# Altium integrated library M2_to_USB3.IntLib: 2 symbols
Pins are listed as number, name and electrical type; pins without a type are passive.

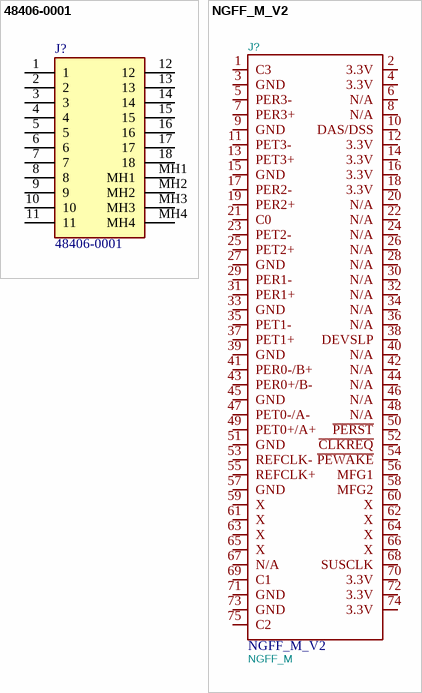
[diagram p0: symbols 48406-0001 to NGFF_M_V2]

## 48406-0001
designator J?
Connector; Manufacturer_Name: Molex; Datasheet Link: https://www.molex.com/content/dam/molex/molex-dot-com/products/automated/en-us/salesdrawingpdf/484/48406/484060001_sd.pdf; Height: 15.65mm; Manufacturer_Part_Number: 48406-0001; Mouser Part Number: 538-48406-0001; Mouser Price/Stock: https://www.mouser.co.uk/ProductDetail/Molex/48406-0001?qs=tkvX2tz6JTEgpbDeTYwKTA%3D%3D
footprint 484060001
pins: 1, 2, 3, 4, 5, 6, 7, 8, 9, 10, 11, 12, 13, 14, 15, 16, 17, 18, MH1, MH2, MH3, MH4

## NGFF_M_V2
designator J?  value NGFF_M
footprint M.2-M-KEY-2280-V2 (Footprint not found)
pins: 1 C3, 2 3.3V, 3 GND, 4 3.3V, 5 PER3-, 6 N/A, 7 PER3+, 8 N/A, 9 GND, 10 DAS/DSS, 11 PET3-, 12 3.3V, 13 PET3+, 14 3.3V, 15 GND, 16 3.3V, 17 PER2-, 18 3.3V, 19 PER2+, 20 N/A, 21 C0, 22 N/A, 23 PET2-, 24 N/A, 25 PET2+, 26 N/A, 27 GND, 28 N/A, 29 PER1-, 30 N/A, 31 PER1+, 32 N/A, 33 GND, 34 N/A, 35 PET1-, 36 N/A, 37 PET1+, 38 DEVSLP, 39 GND, 40 N/A, 41 PER0-/B+, 42 N/A, 43 PER0+/B-, 44 N/A, 45 GND, 46 N/A, 47 PET0-/A-, 48 N/A, 49 PET0+/A+, 50 ~{PERST}, 51 GND, 52 ~{CLKREQ}, 53 REFCLK-, 54 ~{PEWAKE}, 55 REFCLK+, 56 MFG1, 57 GND, 58 MFG2, 59 X, 60 X, 61 X, 62 X, 63 X, 64 X, 65 X, 66 X, 67 N/A, 68 SUSCLK, 69 C1, 70 3.3V, 71 GND, 72 3.3V, 73 GND, 74 3.3V, 75 C2